# EAGLE library part MCP16322 (library libredaq-comps)
The MCP16321/2 is a highly integrated, high-efficiency, fixed frequency, synchronous step-down DC-DC converter in a 16-pin QFN package that operates from input voltages up to 24V.
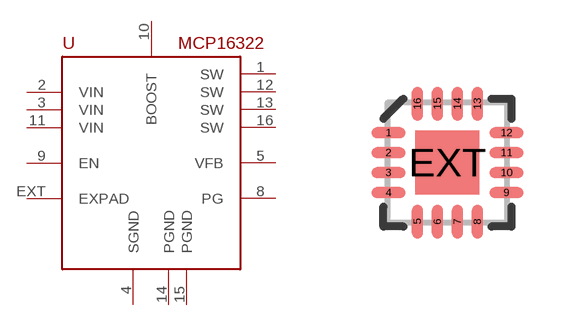
[diagram p11: symbol with the pads of QFN16-3X3MM; footprint QFN16-3X3MM]

Designator prefix -

## MCP16322  [QFN16-3X3MM]
1  SW
2  VIN
3  VIN
4  SGND
5  VFB
8  PG
9  EN
10  BOOST
11  VIN
12  SW
13  SW
14  PGND
15  PGND
16  SW
EXT  EXPAD

## Footprint QFN16-3X3MM (pad centres in mm)
3mm x 3mm QFN 16 pin
smd 0.85 x 0.28: 1 -1.475,0.75; 2 -1.475,0.25; 3 -1.475,-0.25; 4 -1.475,-0.75; 9 1.475,-0.75; 10 1.475,-0.25; 11 1.475,0.25; 12 1.475,0.75
smd 0.28 x 0.85: 5 -0.75,-1.475; 6 -0.25,-1.475; 7 0.25,-1.475; 8 0.75,-1.475; 13 0.75,1.475; 14 0.25,1.475; 15 -0.25,1.475; 16 -0.75,1.475
smd 1.6 x 1.6: EXT 0,0